# Altium schematic symbol library 5V 1 CHANNEL RELAY.SchLib: 2 symbols
Pins are listed as number, name and electrical type; pins without a type are passive.

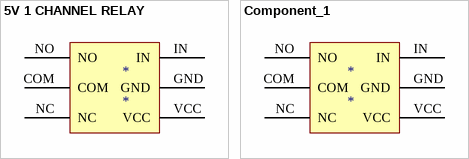
[diagram p0: symbols 5V 1 CHANNEL RELAY to Component_1]

## 5V 1 CHANNEL RELAY
designator *
pins: COM, GND, IN, NC, NO, VCC

## Component_1
designator *
pins: COM, GND, IN, NC, NO, VCC